# EAGLE library part 236-424/000-012 (library con-wago_236)
Serie 236, Stand: 01.01.2012. Die jeweils aktuellen Daten zu diesem Artikel finden Sie in unserem Produktkatalog, den Sie unter www.wago.com einsehen können. As of: 01/01/2012. Please find the newest data for this article in our product catalogue, which can be viewed under www.wago.com.
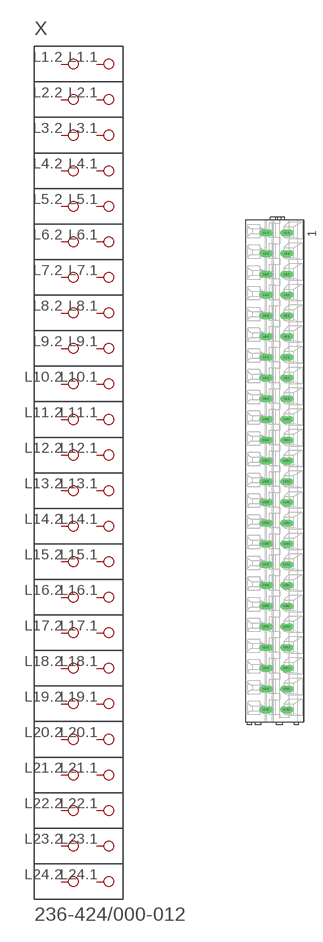
[diagram p227: symbol with the pads of P-236-424; footprint P-236-424]

Designator prefix X

## 236-424/000-012  [P-236-424]
L1.1  P1.1
L1.2  P1.2
L2.1  P2.1
L2.2  P2.2
L3.1  P3.1
L3.2  P3.2
L4.1  P4.1
L4.2  P4.2
L5.1  P5.1
L5.2  P5.2
L6.1  P6.1
L6.2  P6.2
L7.1  P7.1
L7.2  P7.2
L8.1  P8.1
L8.2  P8.2
L9.1  P9.1
L9.2  P9.2
L10.1  P10.1
L10.2  P10.2
L11.1  P11.1
L11.2  P11.2
L12.1  P12.1
L12.2  P12.2
L13.1  P13.1
L13.2  P13.2
L14.1  P14.1
L14.2  P14.2
L15.1  P15.1
L15.2  P15.2
L16.1  P16.1
L16.2  P16.2
L17.1  P17.1
L17.2  P17.2
L18.1  P18.1
L18.2  P18.2
L19.1  P19.1
L19.2  P19.2
L20.1  P20.1
L20.2  P20.2
L21.1  P21.1
L21.2  P21.2
L22.1  P22.1
L22.2  P22.2
L23.1  P23.1
L23.2  P23.2
L24.1  P24.1
L24.2  P24.2

## Footprint P-236-424 (pad centres in mm)
drill 1.1 long: L1.1 2.957,57.35; L1.2 -2.043,57.35; L2.1 2.957,52.35; L2.2 -2.043,52.35; L3.1 2.957,47.35; L3.2 -2.043,47.35; L4.1 2.957,42.35; L4.2 -2.043,42.35; L5.1 2.957,37.35; L5.2 -2.043,37.35; L6.1 2.957,32.35; L6.2 -2.043,32.35; L7.1 2.957,27.35; L7.2 -2.043,27.35; L8.1 2.957,22.35; L8.2 -2.043,22.35; L9.1 2.957,17.35; L9.2 -2.043,17.35; L10.1 2.957,12.35; L10.2 -2.043,12.35; L11.1 2.957,7.35; L11.2 -2.043,7.35; L12.1 2.957,2.35; L12.2 -2.043,2.35; L13.1 2.957,-2.65; L13.2 -2.043,-2.65; L14.1 2.957,-7.65; L14.2 -2.043,-7.65; L15.1 2.957,-12.65; L15.2 -2.043,-12.65; L16.1 2.957,-17.65; L16.2 -2.043,-17.65; L17.1 2.957,-22.65; L17.2 -2.043,-22.65; L18.1 2.947,-27.65; L18.2 -2.043,-27.65; L19.1 2.957,-32.65; L19.2 -2.043,-32.65; L20.1 2.957,-37.65; L20.2 -2.043,-37.65; L21.1 2.957,-42.65; L21.2 -2.043,-42.65; L22.1 2.957,-47.65; L22.2 -2.043,-47.65; L23.1 2.957,-52.65; L23.2 -2.043,-52.65; L24.1 2.957,-57.65; L24.2 -2.043,-57.65